# Altium footprint library SOT25.PcbLib: 1 footprints
Each footprint in its own frame and in the unit in brackets; x right, y up, seen from the top. Pads: shape width x height; smd on the part's side, far side on the other; paste and mask are expansions set on the pad; w line width, h text height; cw(c..) or ccw(c..) is an arc to the next point about the centre after c.
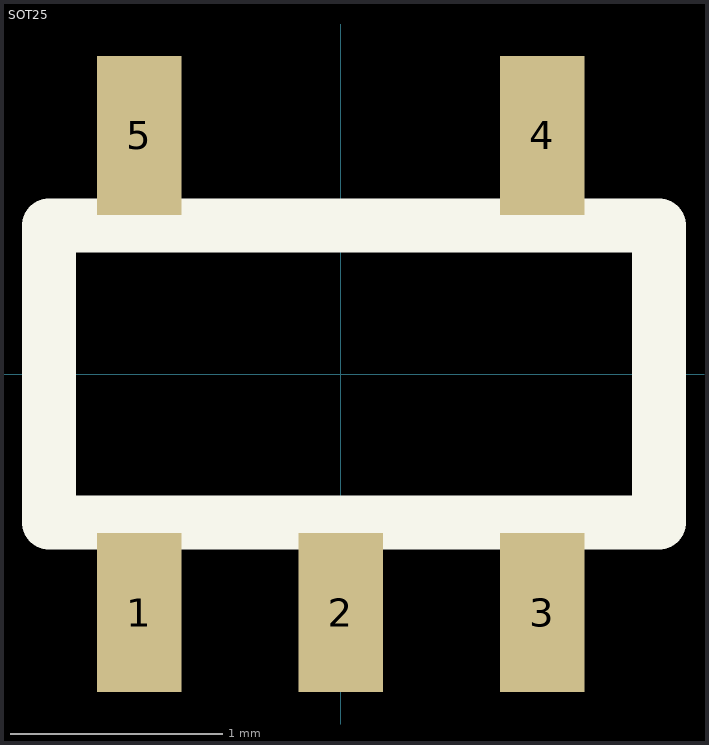
[diagram p0: the footprint, top view; thin cyan lines are the x and y axes]

## SOT25 [mm]
height 1.1
pads (5):
  rect 0.4x0.75 smd: 1(-0.95,-1.125) 2(0,-1.125) 3(0.95,-1.125) 4(0.95,1.125) 5(-0.95,1.125)
Top Overlay:
  lines w0.254: -1.375,-0.7 -1.375,0.7 1.5,0.7 1.5,-0.7 -1.375,-0.7
3D body: height 1.2, standoff 0, extent -1.45,-1.4 1.45,1.4